# EAGLE library part CD4071BE (library relay_board)
CMOS OR Gates
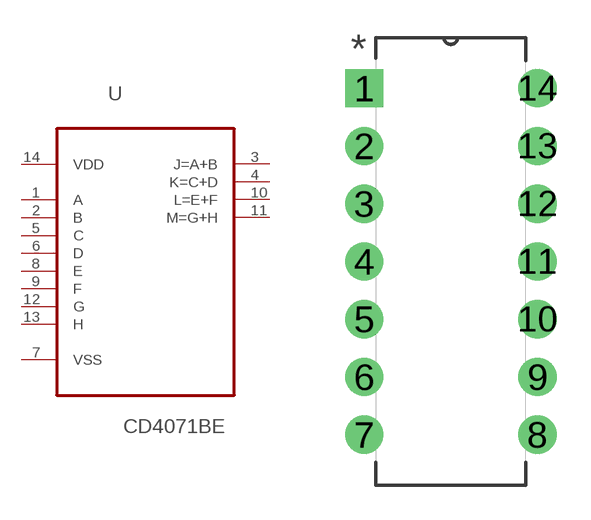
[diagram p1: symbol with the pads of DIP254P762X508-14; footprint DIP254P762X508-14]

Designator prefix U

## CD4071BE (MPN: CD4071BE; OC_FARNELL: 1106115; OC_NEWARK: 60K5129; PACKAGE: PDIP-14; SUPPLIER: Texas Instruments)  [DIP254P762X508-14]
1  A  in
2  B  in
3  J=A+B  out
4  K=C+D  out
5  C  in
6  D  in
7  VSS  pwr
8  E  in
9  F  in
10  L=E+F  out
11  M=G+H  out
12  G  in
13  H  in
14  VDD  pwr

## Footprint DIP254P762X508-14 (pad centres in mm)
drill 1.118 square: 1 -7.62,15.24
drill 1.118: 2 -7.62,12.7; 3 -7.62,10.16; 4 -7.62,7.62; 5 -7.62,5.08; 6 -7.62,2.54; 7 -7.62,0; 8 0,0; 9 0,2.54; 10 0,5.08; 11 0,7.62; 12 0,10.16; 13 0,12.7; 14 0,15.24